# Altium footprint library RPlan_LB.PcbLib: 39 footprints (part 2 of 3)
Each footprint in its own frame and in the unit in brackets; x right, y up, seen from the top. Pads: shape width x height; smd on the part's side, far side on the other; paste and mask are expansions set on the pad; w line width, h text height; cw(c..) or ccw(c..) is an arc to the next point about the centre after c.
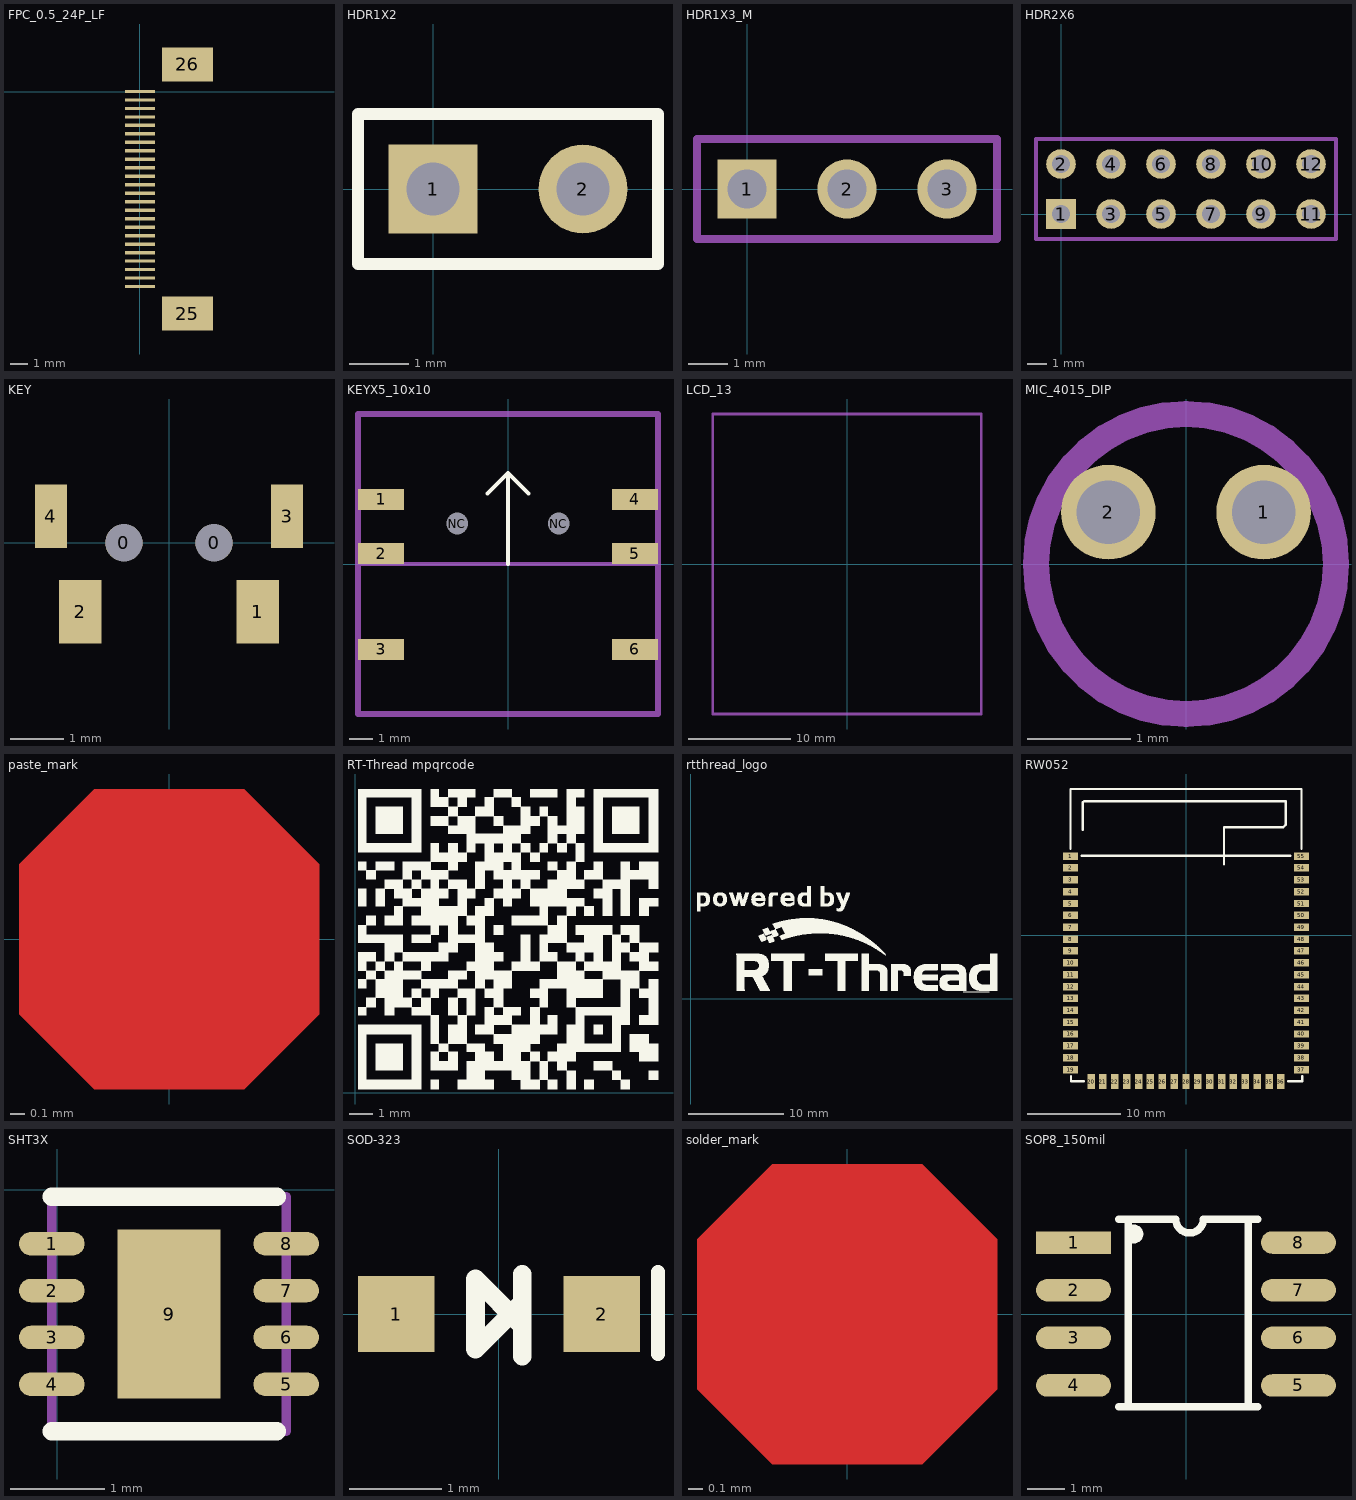
[diagram p1: the footprints below, top view; thin cyan lines are the x and y axes]

## FPC_0.5_24P_LF [mm]
height 1.27
pads (26):
  rect 1.75x0.2 smd mask+0.051: 1(0,-11.5) 2(0,-11) 3(0,-10.5) 4(0,-10) 5(0,-9.5) 6(0,-9) 7(0,-8.5) 8(0,-8) 9(0,-7.5) 10(0,-7) 11(0,-6.5) 12(0,-6) 13(0,-5.5) 14(0,-5) 15(0,-4.5) 16(0,-4) 17(0,-3.5) 18(0,-3) 19(0,-2.5) 20(0,-2) 21(0,-1.5) 22(0,-1) 23(0,-0.5) 24(0,0)
  rect 3x2 smd: 25(2.8,-13.1) 26(2.8,1.6)
3D body "HEADER-FPC-ZIF-SMD-Horizontal-0.5-24.stp": height 2.2, standoff -0.05, extent -0.502,-13.765 5.997,2.335

## HDR1X2 [mm] "Connector; Header; 2 Position"
pads (2):
  rect 1.5x1.5 hole 0.9: 1(0,0)
  round 1.5 hole 0.9: 2(2.54,0)
Top Overlay:
  lines w0.2: -1.27,-1.27 -1.27,1.27 3.81,1.27 3.81,-1.27 -1.27,-1.27

## HDR1X3_M [mm] "Connector; Header; 3 Position"
pads (3):
  rect 1.5x1.5 hole 1: 1(0,0)
  round 1.5 hole 1: 2(2.54,0) 3(5.08,0)
Mechanical 1:
  lines w0.2: -1.27,-1.27 -1.27,1.27 6.35,1.27 6.35,-1.27 -1.27,-1.27

## HDR2X6 [mm] "Connector; Header; 6x2 Position"
pads (12):
  rect 1.5x1.5 hole 0.9: 1(0,0)
  round 1.5 hole 0.9: 2(0,2.54) 3(2.54,0) 4(2.54,2.54) 5(5.08,0) 6(5.08,2.54) 7(7.62,0) 8(7.62,2.54) 9(10.16,0) 10(10.16,2.54) 11(12.7,0) 12(12.7,2.54)
Mechanical 15:
  lines w0.2: -1.27,-1.27 13.97,-1.27 13.97,3.81 -1.27,3.81 -1.27,-1.27

## KEY [mm]
pads (6):
  round 0.7 hole 0.7: 0(-0.85,0) 0(0.85,0)
  rect 0.8x1.2 smd: 1(1.675,-1.3) 2(-1.675,-1.3)
  rect 0.6x1.2 smd: 3(2.225,0.5) 4(-2.225,0.5)
3D body "User Library-2X4X3_5mm_switch.STEP": height 2, standoff -0.3, extent -2.325,-2.197 2.325,2.103

## KEYX5_10x10 [mm]
height 2.54
pads (8):
  rect 2x0.9 smd: 1(-5.5,2.8) 2(-5.5,0.45) 3(-5.5,-3.7) 4(5.5,2.8) 5(5.5,0.45) 6(5.5,-3.7)
  round 0.85 hole 0.95 unplated: NC(-2.2,1.75) NC(2.2,1.75)
Top Overlay:
  lines w0.178: -0.889,3.048 0,3.937 ; 0,0 0,3.937 ; 0.889,3.048 0,3.937
Mechanical 1:
  lines w0.178: -6.5,0 6.5,0
  lines w0.254: -6.5,-6.5 6.5,-6.5 6.5,6.5 -6.5,6.5 -6.5,-6.5

## LCD_13 [mm]
Mechanical 1:
  lines w0.254: -13.08,-14.61 13.08,-14.61 13.08,14.61 -13.08,14.61 -13.08,-14.61
3D body: height 0.25, standoff 0, extent -14.478,10.922 -14.478,10.922
3D body: height 0.25, standoff 0, extent -13.08,-14.61 13.08,14.61

## MIC_4015_DIP [mil]
height 50
pads (2):
  round 36 hole 24: 1(29.53,19.68) 2(-29.53,19.68)
Mechanical 1:
  circle w10: c0,0 r57.01
  text "-" at -40,-25 h25
  text "+" at 20,-25 h25

## paste_mark [mm]
height 0.254
Top Layer:
  circle w0.508: c0,0 r0.254
  pour cut-out: 0.508,-1.016 1.016,-0.508 1.016,0.508 0.508,1.016 -0.508,1.016 -1.016,0.508 -1.016,-0.508 -0.508,-1.016
Top Paste:
  circle w0.508: c0,0 r0.254
Top Solder:
  circle w1.016: c0,0 r0.508

## RT-Thread mpqrcode [mm]
Top Overlay:
  drawing of 4422 lines, arcs and shapes, not listed

## rtthread_logo [mm]
Top Overlay:
  drawing of 4367 lines, arcs and shapes, not listed

## RW052 [mm]
height 2.54
pads (55):
  rect 1.6x0.8 smd: 1(-12.36,8.48) 2(-12.36,7.21) 3(-12.36,5.94) 4(-12.36,4.67) 5(-12.36,3.4) 6(-12.36,2.13) 7(-12.36,0.86) 8(-12.36,-0.41) 9(-12.36,-1.68) 10(-12.36,-2.95) 11(-12.36,-4.22) 12(-12.36,-5.49) 13(-12.36,-6.76) 14(-12.36,-8.03) 15(-12.36,-9.3) 16(-12.36,-10.57) 17(-12.36,-11.84) 18(-12.36,-13.11) 19(-12.36,-14.38) 37(12.36,-14.38) 38(12.36,-13.11) 39(12.36,-11.84) 40(12.36,-10.57) 41(12.36,-9.3) 42(12.36,-8.03) 43(12.36,-6.76) 44(12.36,-5.49) 45(12.36,-4.22) 46(12.36,-2.95) 47(12.36,-1.68) 48(12.36,-0.41) 49(12.36,0.86) 50(12.36,2.13) 51(12.36,3.4) 52(12.36,4.67) 53(12.36,5.94) 54(12.36,7.21) 55(12.36,8.48)
  rect 0.8x1.6 smd: 20(-10.16,-15.66) 21(-8.89,-15.66) 22(-7.62,-15.66) 23(-6.35,-15.66) 24(-5.08,-15.66) 25(-3.81,-15.66) 26(-2.54,-15.66) 27(-1.27,-15.66) 28(0,-15.66) 29(1.27,-15.66) 30(2.54,-15.66) 31(3.81,-15.66) 32(5.08,-15.66) 33(6.35,-15.66) 34(7.62,-15.66) 35(8.89,-15.66) 36(10.16,-15.66)
Top Overlay:
  lines w0.254: -12.36,9.271 -12.36,15.66 12.36,15.66 12.36,9.271 ; -12.319,-15.113 -12.319,-15.621 -10.922,-15.621 ; -11.176,8.509 11.176,8.509 ; -11.049,11.303 -11.049,14.224 -10.922,14.351 10.668,14.351 10.668,11.811 10.414,11.557 4.064,11.557 4.064,7.62 ; 10.922,-15.621 12.446,-15.621 12.446,-15.113

## SHT3X [mm]
pads (9):
  oval 0.7x0.25 smd: 1(-0.059,-0.576) 2(-0.059,-1.076) 3(-0.059,-1.576) 4(-0.059,-2.076) 5(2.441,-2.076) 6(2.441,-1.576) 7(2.441,-1.076) 8(2.441,-0.576)
  rect 1.1x1.8 smd: 9(1.191,-1.326)
Top Overlay:
  lines w0.2: -0.059,-2.576 2.341,-2.576 ; -0.059,-0.076 2.341,-0.076
Mechanical 15:
  lines w0.1: -0.059,-2.576 2.441,-2.576 2.441,-0.076 -0.059,-0.076 -0.059,-2.576

## SOD-323 [mm]
height 6.452
pads (2):
  rect 0.83x0.83 smd: 1(-1.115,0) 2(1.115,0)
Top Overlay:
  lines w0.152: 1.727,-0.432 1.727,0.457
  lines w0.203: 0.229,0.102 -0.254,-0.381 -0.254,0.381 0.254,-0.127 ; 0.254,-0.457 0.254,0.432

## solder_mark [mm]
height 0.254
Top Layer:
  circle w0.508: c0,0 r0.254
  pour cut-out: 0.508,-1.016 1.016,-0.508 1.016,0.508 0.508,1.016 -0.508,1.016 -1.016,0.508 -1.016,-0.508 -0.508,-1.016
Top Solder:
  circle w1.016: c0,0 r0.508

## SOP8_150mil [mm]
height 1.27
pads (8):
  rect 2x0.6 smd: 1(-2.997,1.905)
  rrect100% 2x0.6 smd: 2(-2.997,0.635) 3(-2.997,-0.635) 4(-2.997,-1.905) 5(2.997,-1.905) 6(2.997,-0.635) 7(2.997,0.635) 8(2.997,1.905)
Top Overlay:
  circle w0.25: c-1.388,2.132 r0.125
  lines w0.2: -1.794,-2.475 1.914,-2.475 ; -1.794,2.525 -0.272,2.525 ccw(c0.095,2.525) 0.461,2.525 1.914,2.525 ; -1.54,-2.475 -1.54,2.525 ; 1.66,-2.475 1.66,2.525
3D body "SOP8.STEP": height 1.6, standoff 0, extent -3.052,-2.5 2.99,2.52